# Altium schematic symbol library BMS_MasterboardUpdated_1.SCHLIB: 39 symbols
Pins are listed as number, name and electrical type; pins without a type are passive.

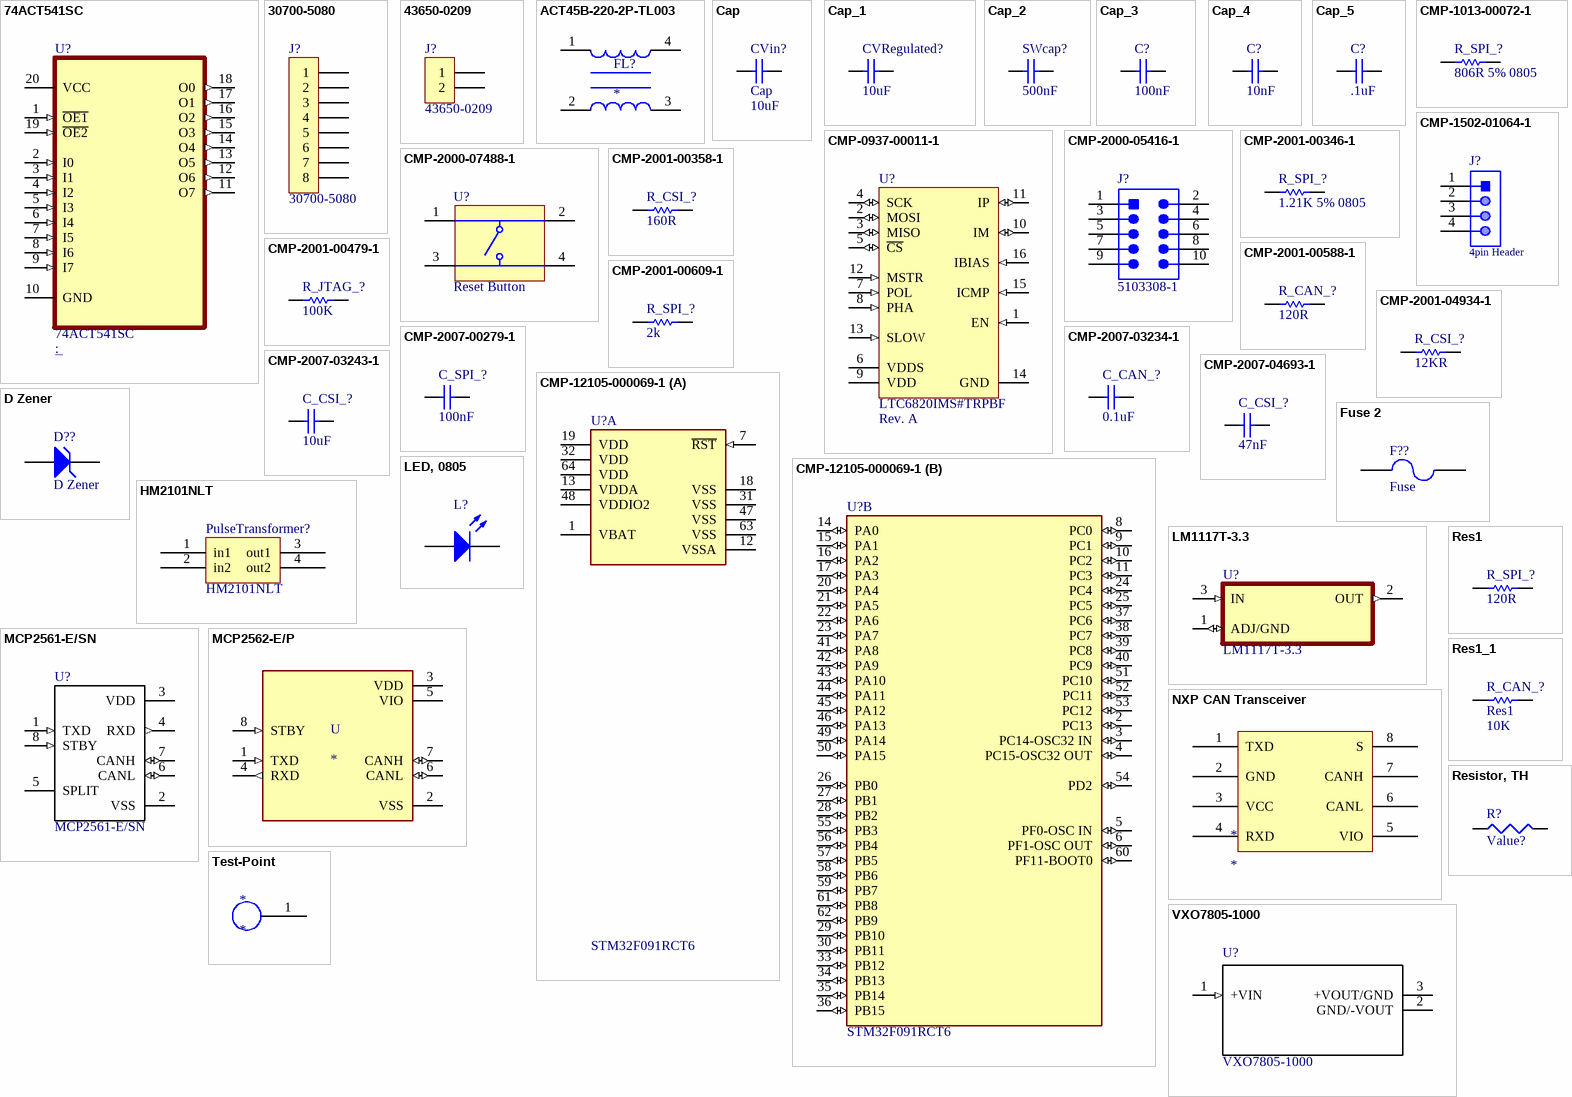
[diagram p0: symbols 74ACT541SC to VXO7805-1000]

## 74ACT541SC
designator U?
Buffer, Non-Inverting 1 Element 8 Bit per Element 3-State Output 20-SOIC; MF: ON Semiconductor; DigiKey-Purchase-URL: https://snapeda.com/shop?store=DigiKey&id=431052; Mouser-Purchase-URL: https://snapeda.com/shop?store=Mouser&id=431052; SnapEDA_Link: https://www.snapeda.com/parts/74ACT541SC/ON%20Semiconductor/view-part/431052/?ref=snap; Price: None; Arrow_Electronics-Purchase-URL: https://snapeda.com/shop?store=Arrow+Electronics&id=431052; MP: 74ACT541SC; Value: *; Availability: Warning; Package: SOIC-20 Fairchild Semiconductor
footprint SOIC127P1032X265-20N
pins: 1 ~{OE1} (in), 2 I0 (in), 3 I1 (in), 4 I2 (in), 5 I3 (in), 6 I4 (in), 7 I5 (in), 8 I6 (in), 9 I7 (in), 10 GND, 11 O7 (out), 12 O6 (out), 13 O5 (out), 14 O4 (out), 15 O3 (out), 16 O2 (out), 17 O1 (out), 18 O0 (out), 19 ~{OE2} (in), 20 VCC (power)

## 30700-5080
designator J?
Molex 8 Position High Density Board Header; TargetLibrary: RITRacing-Connectors; PartNumber: 30700-5080; Manufacturer: Molex; Publisher: T.Tallo; Published: 22Oct2016; Status: Active; ComponentLink1URL: http://www.molex.com/molex/products/datasheet.jsp?part=active/0307004081_PCB_HEADERS.xml; ComponentLink1Description: Datasheet
footprint 30700-5080 (Molex 8 Pin High Density Header)
pins: 1, 2, 3, 4, 5, 6, 7, 8

## 43650-0209
designator J?
Molex 2 Position Board Header, RIght Angle; TargetLibrary: RITRacing-Connectors; Voltage: 600V; PartNumber: 43650-0209; Manufacturer: Molex; Publisher: T.Tallo; Published: 13Aug2018; Status: Active; ComponentLink1URL: http://www.mouser.com/ds/2/418/NG_CD_1445088_A1-614413.pdf; ComponentLink1Description: Datasheet
footprint 43650-0209 (Molex 2 Position Board Header, Right Angle)
pins: 1, 2

## ACT45B-220-2P-TL003
designator FL?
100ÂµH @ 100kHz 2 Line Common Mode Choke Surface Mount 5.8 kOhms @ 10MHz 150mA DCR 2Ohm; MP: ACT45B-220-2P-TL003; Package: None; Price: None; Value: *; Availability: Unavailable
footprint FIL_ACT45B-220-2P-TL003
pins: 1, 2, 3, 4

## Cap
designator CVin?  value 10uF
Capacitor; Published: 8-Jun-2000; LatestRevisionDate: 17-Jul-2002; LatestRevisionNote: Re-released for DXP Platform.; PackageReference: RAD-0.3; Publisher: Altium Limited; PackageDescription: Radial Cap, Thru-Hole; 2 Leads; 0.3 in Pin Spacing
footprint RAD-0.3 (Radial Cap, Thru-Hole; 2 Leads; 0.3 in Pin Spacing)
simulation model CAP (Capacitor)
signal-integrity model Cap
pins: 1, 2

## Cap_1
designator CVRegulated?  value 10uF
Capacitor; Published: 8-Jun-2000; LatestRevisionDate: 17-Jul-2002; LatestRevisionNote: Re-released for DXP Platform.; PackageReference: RAD-0.3; Publisher: Altium Limited; PackageDescription: Radial Cap, Thru-Hole; 2 Leads; 0.3 in Pin Spacing
footprint RAD-0.3 (Radial Cap, Thru-Hole; 2 Leads; 0.3 in Pin Spacing)
simulation model CAP (Capacitor)
signal-integrity model Cap
pins: 1, 2

## Cap_2
designator SWcap?  SWcap1: 500nF
Capacitor; Published: 8-Jun-2000; LatestRevisionDate: 17-Jul-2002; LatestRevisionNote: Re-released for DXP Platform.; PackageReference: RAD-0.3; Publisher: Altium Limited; PackageDescription: Radial Cap, Thru-Hole; 2 Leads; 0.3 in Pin Spacing
footprint RAD-0.3 (Radial Cap, Thru-Hole; 2 Leads; 0.3 in Pin Spacing)
simulation model CAP (Capacitor)
signal-integrity model Cap
pins: 1, 2

## Cap_3
designator C?  value 100nF
Capacitor; Published: 8-Jun-2000; LatestRevisionDate: 17-Jul-2002; LatestRevisionNote: Re-released for DXP Platform.; PackageReference: RAD-0.3; Publisher: Altium Limited; PackageDescription: Radial Cap, Thru-Hole; 2 Leads; 0.3 in Pin Spacing
footprint RAD-0.3 (Radial Cap, Thru-Hole; 2 Leads; 0.3 in Pin Spacing)
simulation model CAP (Capacitor)
signal-integrity model Cap
pins: 1, 2

## Cap_4
designator C?  value 10nF
Capacitor; Published: 8-Jun-2000; LatestRevisionDate: 17-Jul-2002; LatestRevisionNote: Re-released for DXP Platform.; PackageReference: RAD-0.3; Publisher: Altium Limited; PackageDescription: Radial Cap, Thru-Hole; 2 Leads; 0.3 in Pin Spacing
footprint RAD-0.3 (Radial Cap, Thru-Hole; 2 Leads; 0.3 in Pin Spacing)
simulation model CAP (Capacitor)
signal-integrity model Cap
pins: 1, 2

## Cap_5
designator C?  value .1uF
Capacitor; Published: 8-Jun-2000; LatestRevisionDate: 17-Jul-2002; LatestRevisionNote: Re-released for DXP Platform.; PackageReference: RAD-0.3; Publisher: Altium Limited; PackageDescription: Radial Cap, Thru-Hole; 2 Leads; 0.3 in Pin Spacing
footprint RAD-0.3 (Radial Cap, Thru-Hole; 2 Leads; 0.3 in Pin Spacing)
simulation model CAP (Capacitor)
signal-integrity model Cap
pins: 1, 2

## CMP-0937-00011-1
designator U?, comment LTC6820IMS#TRPBF  DatasheetVersion: Rev. A
IsoSPI Isolated Communication Interface, 2.7 to 5.5 V, -40 to 85 degC, 16-Pin MSOP (MS), Pb-Free, Tape and Reel; Manufacturer: Linear Technology; Manufacturer: Analog Devices / Linear Technology; IO Supply Current: 1 uA Max.; Supply Current, IDLE State: 2 uA; IO Supply Voltage Range: 1.7 to 5.5 V; Receiver Input Resistance: 35 kOhm; VBIAS: 1.9 to 2.1 V; Packing: Tape and Reel; PartNumber: LTC6820IMS#TRPBF; Mounting Technology: Surface Mount; ComponentLink2Description: Datasheet; ComponentLink3Description: Package Specification; ComponentLink1Description: Manufacturer URL; PackageVersion: Rev. A; Temperature Range (degC): -40 to 85; ComponentLink2URL: http://cds.linear.com/docs/en/datasheet/6820fa.pdf; Power Supply: 2.7 to 5.5 V; ComponentLink1URL: http://www.linear.com/; PackageDescription: 16-Pin Micro Small Outline Package, Body 4.039 x 3 mm, Pitch 0.5 mm; ComponentLink3URL: http://cds.linear.com/docs/en/packaging/05081669_A_MS16.pdf; PackageReference: MS-16; Manufacturer Part Number: LTC6820IMS#TRPBF
footprint LT-MS-16_M (SOP, 16-Leads, Body 4.04x3.00mm, Pitch 0.50mm, IPC Low Density)
footprint LT-MS-16_L (SOP, 16-Leads, Body 4.04x3.00mm, Pitch 0.50mm, IPC High Density)
footprint LT-MS-16_N (SOP, 16-Leads, Body 4.04x3.00mm, Pitch 0.50mm, IPC Medium Density)
pins: 1 EN (in) "Device Enable Input. If high, this pin forces the LTC6820 to stay enabled, overriding the internal IDLE mode function. If low, the LTC6820 will go into IDLE mode after the C\S\ pin has been high for 5.7ms (when MSTR pin is high) or after no signal on the IP/IM pins for 5.7ms (when MSTR pin is low). The LTC6820 will wake-up less than 8us after C\S\ falls (MSTR high) or after a signal is detected on IP/IM (MSTR low).", 2 MOSI (io) "SPI Master Out/Slave In Data. If connected on the master side of a SPI interface (MSTR pin high), this pin receives the data signal output from the master SPI controller. If connected on the slave side of the interface (MSTR pin low), this pin drives the data signal input to the slave SPI device. The output is open drain, so an external pull-up resistor to VDDS is required.", 3 MISO (io) "SPI Master Out/Slave In Data. If connected on themaster side of a SPI interface (MSTR pin high), this pin receives the data signal output from the master SPI controller. If connected on the slave side of the interface (MSTR pin low), this pin drives the data signal input to the slave SPI device. The output is open drain, so an external pull-up resistor to VDDS is required.", 4 SCK (io) "SPI Clock Input/Output. If connected on the master side of the interface (MSTR pin high), this pin receives the clock signal from the master SPI controller. This input should not be pulled above VDDS. If connected on the slave side of the interface (MSTR pin low), this pin outputs the clock signal to the slave device. The output driver is push-pull; no external pull-up resistor is needed.", 5 ~{CS} (io) "SPI Chip Select Input/Output. If connected on the masterside ofthe interface (MSTR pin high), this pin receivesthe chip select signal from the master SPI controller. This input should not be pulled above VDDS. Ifconnected on the slave side of the interface (MSTR pin low), this pin outputs the chip select signal to the slave device. The output driver is push-pull; no external pull-up resistor is needed.", 6 VDDS (power) "SPI Input/Output Power Supply Input.The output drivers for the SCK and C\S\ pins use the VDDS input as their positive power supply. The input threshold voltages of SCK, C\S\, MOSI, MISO and EN are determined by VDDS. May be tied to VDD or to a supply above or below VDD to level shift the SPI I/O. If separate from VDD, connect a bypass capacitor of at least 0.01 pF directly between VDDS amd GND", 7 POL (in) "SPI Clock Polarity Input. Tie to VDD or GND. See Operation section for details.", 8 PHA (in) "SPI Clock Phase Input. Tie to VDD orGND. See Operation section for details.", 9 VDD (power) "Device Power Supply Input. Connect a bypass capacitor of at least 0.01uF directly between VDD and GND.", 10 IM (io) "Isolated Interface Minus Input/Output.", 11 IP (io) "Isolated Interface Plus Input/Output.", 12 MSTR (in) "Serial Interface Master/Slave Selector Input. Tie this pin to VDD if the device is on the master side of the isolated interface. Tie this pin to GND if the device is on the slave side of the isolated interface", 13 SLOW (in) "Slow Interface Selection Input. For clock frequencies at or below 200kHz, or if slave devices cannot meet timing requirements, this pin should be tied to VDD. For clock frequencies above 200kHz, this pin should be tied to GND.", 14 GND (power) "Device Ground.", 15 ICMP (in) "Isolated Interface Comparator Voltage Threshold Set. Tie this pin to the resistor divider between IBIAS and GND to set the voltage threshold of the interface receiver comparators. The comparator thresholds are set to 1/2 the voltage on the ICMP pin.", 16 IBIAS (in) "Isolated Interface Current Bias. Tie IBIAS to GND through a resistor divider to set the interface output current level.When the device is enabled, this pin is approximately 2V. When transmitting pulses, the sink current on each of the IP and IM pins is set to 20 times the current sourced from pin IBIAS to GND. Limit the capacitance on the IBIAS pin to less than 50pF to maintain the stability of the feedback circuit regulating the IBIAS voltage."

## CMP-1013-00072-1
designator R_SPI_?, comment 806R 5% 0805
820R 0.125W 5% 0805 (2012 Metric)  SMD; Manufacturer: Vishay; Manufacturer Part Number: CRCW0805820RJNEC; Manufacturer: Panasonic; Manufacturer Part Number: ERJ-6GEYJ821V; Manufacturer: Yageo; Manufacturer Part Number: RC0805JR-07820RL; Manufacturer: Vishay Dale; Manufacturer Part Number: CRCW0805820RJNTA; Manufacturer Part Number: CRCW0805820RJNEB; Manufacturer: Rohm; Manufacturer Part Number: MCR10EZPJ821; Manufacturer Part Number: CRCW0805820RJNEA; Manufacturer: Bourns; Manufacturer Part Number: CR0805-JW-821ELF; Case-EIA: 0805; Case-Metric: 2012; Value: 820.00 Ohm; Technology: SMT; Tolerance: 5 %; Power: 0.125 W
footprint RESC0805(2012)_M (Chip Resistor, Body 2.0x1.3mm, IPC Low Density)
footprint RESC0805(2012)_L (Chip Resistor, Body 2.0x1.3mm, IPC High Density)
footprint RESC0805(2012)_N (Chip Resistor, Body 2.0x1.3mm, IPC Medium Density)
pins: 1, 2
1 alternate drawing of the same symbol

## CMP-1502-01064-1
designator J?, comment 4pin Header
THT Vertical Pin Header WR-PHD, Pitch 2.54 mm, Single Row, 4 pins; Manufacturer: Wurth Elektronik; Part Number: 61300411121; Manufacturer: Wurth Electronics; Withstanding Voltage: 500VAC; Rated Current: 3A; Working Voltage: 250VAC; Pin Number: 4; Gender: Male; Contact Resistance: 20mOhm; Pitch: 2.54mm; Manufacturer URL: http://www.we-online.de; Operating Temperature: -40to105degC; Packaging: Bag; Mounting Technology: THT; Package Reference: 61300411121; Datasheet URL: https://katalog.we-online.de/em/datasheet/6130xx11121.pdf; Publisher: WurthElektronik; Row Number: Single; Orientation: Vertical; Manufacturer Part Number: 61300411121
footprint 61300411121 (Pin Header, pitch 2.54 mm, THT, Vertical, single row, 4p)
pins: 1, 2, 3, 4

## CMP-2000-05416-1
designator J?, comment 5103308-1
Male Header, Pitch 2.54 mm, 2 x 5 Position, Height 9.85 mm, Tail Length 3.05 mm, RoHS, Tube; Manufacturer: TE Connectivity; Manufacturer Part Number: 51033081; Pitch: 0.100"(2.54mm); Mating Products: 1658624-1-ND / -CONNRCPT10POSPOLARGOLD / 1658527-4-ND / -CONNRCPT10POS.100W/STRRELF / 1658527-3-ND / -CONNRCPT10POS.100622SERIES / 1658526-3-ND / -CONNRCPT10POSVERTGOLD / 1658526-5-ND / -609-1041LFFEMSOCKT,LEADFREE / 1658526-4-ND / -609-1030LFFEMSOCKT,LEADFREE / ASC10B-ND / -CONNIDCSOCKET10POSGOLD / ASC10H-ND / -CONNIDCSOCKET10POS15GOLD / AKC10B-ND / -CONNIDCSKT10POSW/POLGOLD / AKC10H-ND / -CONNIDCSKT10POSW/POL15GOLD / More...; Dynamic Catalog: AMP-LatchSeries; Number of Positions Loaded: All; Featured Product: AMP-LATCHRibbonCableConnectors; 3D Model: 5103308-1.pdf; Number of Positions: 10; Other Names: A33159; Catalog Drawings: LowProfileShroudedStraight; Connector Type: Header,Shrouded; Termination: Solder; Contact Finish Thickness: 15µin(0.38µm); Datasheet URL: http://www.onlinecomponents.com/productFiles/mf-AMP/eng_cat_889409_0699_96_.pdf; Standard Package: 125; Number of Rows: 2; Contact Type: MalePin; Mounting Type: ThroughHole; Manufacturer URL: http://www.te.com/; Contact Finish: GoldorGold-Palladium; Family: RectangularConnectors-Headers,MalePins; RoHS Information: 5103308-1StatementofCompliance; Packaging: Tube; Category: Connectors,Interconnects; Datasheet Version: Apr-12; Contact Mating Length: 0.240"(6.10mm); Series: AMP-Latch; Row Spacing: 0.100"(2.54mm); Color: Black
footprint TECO-5103308-1_V (Connector, 10-Leads, Body 20.32x9.14mm, Pitch 2.54mm)
pins: 1, 2, 3, 4, 5, 6, 7, 8, 9, 10

## CMP-2000-07488-1
designator U?, comment Reset Button
Swicth, SPST, 24 V, -35 to 85 degC, 4-Pin SMD, RoHS, Tape and Reel; Manufacturer: TE Connectivity; Manufacturer Part Number: FSM4JSMA; Switch Travel: 0.25mm; Mechanical Life: 100000Cycles; Contact Current Rating: 50mA; Operating Force: 1.57N; Actuator Material: Polyamide; Contact Resistance: 100mOhm; Voltage Rating: 24V; Illumination Type: Illuminated; Actuator Length: 0.055inch; Max Voltage Rating (DC): 12V; Case\/Package: SMD/SMT; Orientation: Straight; Datasheet URL: http://www.te.com/commerce/DocumentDelivery/DDEController?Action=showdoc&DocId=Customer+Drawing%7F2-1437565-7%7FV%7Fpdf%7FEnglish%7FENG_CD_2-1437565-7_V.pdf%7F4-1437565-2; Min Operating Temperature: -35degC; Packaging: LoosePiece; Termination: GullWing; Throw Configuration: SPST; Package Description: 4-Pin Surface Mount Device, Body 6 x 6 mm, Pitch 4.5 mm; Mounting Technology: SurfaceMount; Contact Plating: Silver; Datasheet Version: Rev. V, 02/2015; RoHSCompliant: true; Max Operating Temperature: 85degC; Length: 6mm; Voltage Rating (DC): 24V; Electrical Life: 100000Cycles; Current Rating: 50mA; Package Quantity: 750; Mount: SurfaceMount; Package Reference: FSM4JSMA; Manufacturer URL: http://www.te.com/; Width: 6mm; REACH SVHC: Unknown; Contact Material: CopperAlloy
footprint TECO-FSM4JSMA_V (SMD, 4-Leads, Body 6x6mm, Pitch 4.5mm)
pins: 1, 2, 3, 4

## CMP-2001-00346-1
designator R_SPI_?, comment 1.21K 5% 0805
Part Number: ERJ-6GEYJ122V; Manufacturer: Panasonic; Manufacturer Part Number: ERJ-6GEYJ122V
footprint RESC2013X70X40NL20T20 (Chip Resistor, 2-Leads, Body 2.00x1.25mm, IPC Medium Density)
footprint RESC2013X70X40LL20T20 (Chip Resistor, 2-Leads, Body 2.00x1.25mm, IPC High Density)
footprint RESC2013X70X40ML20T20 (Chip Resistor, 2-Leads, Body 2.00x1.25mm, IPC Low Density)
pins: 1, 2
1 alternate drawing of the same symbol

## CMP-2001-00358-1
designator R_CSI_?, comment 160R
Manufacturer: Panasonic; Part Number: ERJ-6GEYJ161V; Manufacturer Part Number: ERJ-6GEYJ161V
footprint RESC2013X70X40ML20T20 (Chip Resistor, 2-Leads, Body 2.00x1.25mm, IPC Low Density)
footprint RESC2013X70X40LL20T20 (Chip Resistor, 2-Leads, Body 2.00x1.25mm, IPC High Density)
footprint RESC2013X70X40NL20T20 (Chip Resistor, 2-Leads, Body 2.00x1.25mm, IPC Medium Density)
pins: 1, 2
1 alternate drawing of the same symbol

## CMP-2001-00479-1
designator R_JTAG_?, comment 100K
Manufacturer: Panasonic; Part Number: ERJ-P06J104V; Manufacturer Part Number: ERJ-P06J104V
footprint RESC2013X70X40NL20T20 (Chip Resistor, 2-Leads, Body 2.00x1.25mm, IPC Medium Density)
footprint RESC2013X70X40ML20T20 (Chip Resistor, 2-Leads, Body 2.00x1.25mm, IPC Low Density)
footprint RESC2013X70X40LL20T20 (Chip Resistor, 2-Leads, Body 2.00x1.25mm, IPC High Density)
pins: 1, 2
1 alternate drawing of the same symbol

## CMP-2001-00588-1
designator R_CAN_?, comment 120R
Manufacturer: Panasonic; Part Number: ERA6AEB121V; Manufacturer Part Number: ERA6AEB121V
footprint RESC2013X60X40ML20T25 (Chip Resistor, 2-Leads, Body 2.00x1.25mm, IPC Low Density)
footprint RESC2013X60X40LL20T25 (Chip Resistor, 2-Leads, Body 2.00x1.25mm, IPC High Density)
footprint RESC2013X60X40NL20T25 (Chip Resistor, 2-Leads, Body 2.00x1.25mm, IPC Medium Density)
pins: 1, 2
1 alternate drawing of the same symbol

## CMP-2001-00609-1
designator R_SPI_?, comment 2k
Part Number: ERA6AEB202V; Manufacturer: Panasonic; Manufacturer Part Number: ERA-6AEB202V
footprint RESC2013X60X40ML20T25 (Chip Resistor, 2-Leads, Body 2.00x1.25mm, IPC Low Density)
footprint RESC2013X60X40NL20T25 (Chip Resistor, 2-Leads, Body 2.00x1.25mm, IPC Medium Density)
footprint RESC2013X60X40LL20T25 (Chip Resistor, 2-Leads, Body 2.00x1.25mm, IPC High Density)
pins: 1, 2
1 alternate drawing of the same symbol

## CMP-2001-04934-1
designator R_CSI_?, comment 12KR
Manufacturer: Vishay Dale; Part Number: CRCW080512K0FKEA; Manufacturer: Vishay; Manufacturer Part Number: CRCW080512K0FKEA
footprint RESC2013X50X30ML20T20 (Chip Resistor, 2-Leads, Body 2.00x1.25mm, IPC Low Density)
footprint RESC2013X50X30LL20T20 (Chip Resistor, 2-Leads, Body 2.00x1.25mm, IPC High Density)
footprint RESC2013X50X30NL20T20 (Chip Resistor, 2-Leads, Body 2.00x1.25mm, IPC Medium Density)
pins: 1, 2
1 alternate drawing of the same symbol

## CMP-2007-00279-1
designator C_SPI_?, comment 100nF
Part Number: C0805C104K5RACTU; Manufacturer: Kemet; Manufacturer: KEMET; Manufacturer Part Number: C0805C104K5RACTU
footprint CAPC2013X88X50NL20T25 (Chip Capacitor, 2-Leads, Body 2.00x1.25mm, IPC Medium Density)
footprint CAPC2013X88X50LL20T25 (Chip Capacitor, 2-Leads, Body 2.00x1.25mm, IPC High Density)
footprint CAPC2013X88X50ML20T25 (Chip Capacitor, 2-Leads, Body 2.00x1.25mm, IPC Low Density)
pins: 1, 2
1 alternate drawing of the same symbol

## CMP-2007-03234-1
designator C_CAN_?, comment 0.1uF
Part Number: C0805C105K3RACTU; Manufacturer: Kemet; Manufacturer: KEMET; Manufacturer Part Number: C0805C105K3RACTU
footprint CAPC2013X140X50LL20T25 (Chip Capacitor, 2-Leads, Body 2.00x1.25mm, IPC High Density)
footprint CAPC2013X140X50ML20T25 (Chip Capacitor, 2-Leads, Body 2.00x1.25mm, IPC Low Density)
footprint CAPC2013X140X50NL20T25 (Chip Capacitor, 2-Leads, Body 2.00x1.25mm, IPC Medium Density)
pins: 1, 2
1 alternate drawing of the same symbol

## CMP-2007-03243-1
designator C_CSI_?, comment 10uF
Part Number: C0805C106K8PACTU; Manufacturer: Kemet; Manufacturer: KEMET; Manufacturer Part Number: C0805C106K8PACTU
footprint CAPC2013X140X50LL20T25 (Chip Capacitor, 2-Leads, Body 2.00x1.25mm, IPC High Density)
footprint CAPC2013X140X50ML20T25 (Chip Capacitor, 2-Leads, Body 2.00x1.25mm, IPC Low Density)
footprint CAPC2013X140X50NL20T25 (Chip Capacitor, 2-Leads, Body 2.00x1.25mm, IPC Medium Density)
pins: 1, 2
1 alternate drawing of the same symbol

## CMP-2007-04693-1
designator C_CSI_?, comment 47nF
Part Number: 08051C473KAT2A; Manufacturer: AVX Interconnect / Elco; Manufacturer: Kyocera AVX; Manufacturer Part Number: 08051C473KAT2A
footprint CAPC2013X140X50LL20T25 (Chip Capacitor, 2-Leads, Body 2.00x1.25mm, IPC High Density)
footprint CAPC2013X140X50ML20T25 (Chip Capacitor, 2-Leads, Body 2.00x1.25mm, IPC Low Density)
footprint CAPC2013X140X50NL20T25 (Chip Capacitor, 2-Leads, Body 2.00x1.25mm, IPC Medium Density)
pins: 1, 2
1 alternate drawing of the same symbol

## CMP-12105-000069-1
designator U?, comment STM32F091RCT6
IC MCU 32BIT 256KB FLASH 64LQFP; Manufacturer: STMicroelectronics; Ram Size: 32KBytes; Number Of A/D Converters: 1; Standoff Height: 0.05mm; Number Of I/Os: 52; Number Of Pwm Channels: 6; Max Supply Voltage: 3.6V; Data Bus Width: 32bits; Max Junction Temp: +105°C; Number Of Spi Channels: 2; Min Supply Voltage: 2V; Number Of Adc Channels: 19; Memory Size: 256KBytes; Frequency: 48MHz; Nominal Supply Current: 0.9-26.9mA; Number Of Uart Channels: 8; Core Architecture: ARM Cortex-M0; Number Of Timers/Counters: 10; Interface: I2C,SPI,USART,CAN,LIN,IrDA,I2S,SMBus; Category: IC; Digikey Description: IC MCU 32BIT 256KB FLASH 64LQFP; Temperature Range Low: -40°C; Lead Free: Yes; ComponentLink2Description: Datasheet; Octopart: https://octopart.com/stm32f091rct6-stmicroelectronics-51988683; Device Class L1: Integrated Circuits (ICs); Automotive: No; Temperature Range High: +85°C; Ambient Temperature Range Low: -40°C; Device Class L2: Embedded Processors and Controllers; Number Of I2C Channels: 2; Memory Type: FLASH; Device Class L3: Microcontrollers; Height: 1.6mm; Temperature: -40°C to +85°C; Ambient Temperature Range High: +85°C; RoHS: TRUE; Ipc Land Pattern Name: QFP50P1200X1200X160-64; ComponentLink2URL: https://www.st.com/resource/en/datasheet/stm32f091rc.pdf; Manufacturer Part Number: STM32F091RCT6; Package: LQFP64-5W; Mouser Description: ARM Microcontrollers - MCU 16/32-BITS MICROS; Number Of Cores: 1
footprint FP-LQFP64-5W-MFG
footprint FP-LQFP64-5W-IPC_C
footprint FP-LQFP64-5W-IPC_B
footprint FP-LQFP64-5W-IPC_A
part A pins: 1 VBAT (power), 7 ~{RST} (in), 12 VSSA (power), 13 VDDA (power), 18 VSS (power), 19 VDD (power), 31 VSS (power), 32 VDD (power), 47 VSS (power), 48 VDDIO2 (power), 63 VSS (power), 64 VDD (power)
part B pins: 2 PC13 (io), 3 PC14-OSC32 IN (io), 4 PC15-OSC32 OUT (io), 5 PF0-OSC IN (io), 6 PF1-OSC OUT (io), 8 PC0 (io), 9 PC1 (io), 10 PC2 (io), 11 PC3 (io), 14 PA0 (io), 15 PA1 (io), 16 PA2 (io), 17 PA3 (io), 20 PA4 (io), 21 PA5 (io), 22 PA6 (io), 23 PA7 (io), 24 PC4 (io), 25 PC5 (io), 26 PB0 (io), 27 PB1 (io), 28 PB2 (io), 29 PB10 (io), 30 PB11 (io), 33 PB12 (io), 34 PB13 (io), 35 PB14 (io), 36 PB15 (io), 37 PC6 (io), 38 PC7 (io), 39 PC8 (io), 40 PC9 (io), 41 PA8 (io), 42 PA9 (io), 43 PA10 (io), 44 PA11 (io), 45 PA12 (io), 46 PA13 (io), 49 PA14 (io), 50 PA15 (io), 51 PC10 (io), 52 PC11 (io), 53 PC12 (io), 54 PD2 (io), 55 PB3 (io), 56 PB4 (io), 57 PB5 (io), 58 PB6 (io), 59 PB7 (io), 60 PF11-BOOT0 (io), 61 PB8 (io), 62 PB9 (io)

## D Zener
designator D??
Zener Diode; Published: 8-Jun-2000; LatestRevisionDate: 17-Jul-2002; LatestRevisionNote: Re-released for DXP Platform.; PackageReference: DIODE-0.7; Publisher: Altium Limited; PackageDescription: Diode, Thru-Hole; 2 Leads; 0.7 in Pin Spacing
footprint DIODE-0.7 (Diode, Thru-Hole; 2 Leads; 0.7 in Pin Spacing)
simulation model ZENER (Diode)
signal-integrity model D Zener
pins: 1 A, 2 K

## Fuse 2
designator F??, comment Fuse
Published: 8-Jun-2000; LatestRevisionDate: 17-Jul-2002; LatestRevisionNote: Re-released for DXP Platform.; PackageReference: PIN-W2/E2.8; Publisher: Altium Limited; PackageDescription: Thru-Hole; 2 Leads
simulation model FUSE (Spice Subcircuit)
footprint FUSE 20MM
pins: 1, 2

## HM2101NLT
designator PulseTransformer?
XFMR CMC MODULE AECQ BATT MNGT; Manufacturer 1: Pulse Electronics; Supplier 1: Digi-Key; Manufacturer Part Number 1: HM2101NLT; Stock 1: 1410; Pricing 1: 1=4.47000, 10=3.61900, 25=2.92600, 50=2.74120, 100=2.61800, 250=2.54100 (USD); RoHS: No; ComponentLink1URL: https://productfinder.pulseeng.com/doc_type/WEB301/doc_num/HM2101NL/doc_part/HM2101NL.pdf?src-supplier=Digi-Key; ComponentLink1Description: https://productfinder.pulseeng.com/doc_type/WEB301/doc_num/HM2101NL/doc_part/HM2101NL.pdf?src-supplier=Digi-Key; Supplier Part Number 1: 1840-1033-1-ND
pins: 1 in1, 2 in2, 3 out1, 4 out2

## LED, 0805
designator L?
LED, 0805, SMD; TargetLibrary: RITRacing-LED's; Value: Value?; Publisher: T.Tallo; Published: 22Oct2016; Status: Active
footprint LED, 0603 (Generic 0603 SMD)
pins: 1 A, 2 K

## LM1117T-3.3
designator U?
800-mA 15-V linear voltage regulator 3-TO-220 0 to 125; MP: LM1117T-3.3/NOPB; MF: Texas Instruments; Arrow_Electronics-Purchase-URL: https://snapeda.com/shop?store=Arrow+Electronics&id=22275; Availability: https://www.mouser.com/ProductDetail/Texas-Instruments/LM1117T-33-NOPB?qs=X1J7HmVL2ZF7RIQB6O0mNg%3D%3D&gclid=Cj0KCQjwvvj5BRDkARIsAGD9vlJnD1MNOYBTPv7FHDAskkwDQ_PuLBSV-edvQAne3qvGjGEuZX3qJSwaAtIgEALw_wcB; Texas_Instruments-Purchase-URL: https://snapeda.com/shop?store=Texas+Instruments&id=22275; DigiKey-Purchase-URL: https://snapeda.com/shop?store=DigiKey&id=22275; Price: None; Value: *; SnapEDA_Link: https://www.snapeda.com/parts/LM1117T-3.3/NOPB/Texas%20Instruments/view-part/22275/?ref=snap; Package: TO-220-3 Texas Instruments; Mouser-Purchase-URL: https://snapeda.com/shop?store=Mouser&id=22275
footprint TO254P1054X470X1955-3
pins: 1 ADJ/GND (io), 2 OUT (out), 3 IN (in)

## MCP2561-E/SN
designator U?
1/1 Transceiver Half CANbus 8-SOIC; MF: Microchip; Price: None; MP: MCP2561-E/SN; SnapEDA_Link: https://www.snapeda.com/parts/MCP2561-E/SN/Microchip/view-part/46593/?ref=snap; Availability: Unavailable; Package: SOIC-8 Microchip; Value: *
footprint *SOIC127P600X175-8N
pins: 1 TXD (in), 2 VSS (power), 3 VDD (power), 4 RXD (out), 5 SPLIT, 6 CANL (io), 7 CANH (io), 8 STBY (in)

## MCP2562-E/P
designator U
1/1 Transceiver Half CANbus 8-PDIP; MP: MCP2562-E/P; MF: Microchip; SnapEDA_Link: https://www.snapeda.com/parts/MCP2562-E/P/Microchip/view-part/290285/?ref=snap; DigiKey-Purchase-URL: https://snapeda.com/shop?store=DigiKey&id=290285; Value: *; Package: DIP-8 Microchip; Digi-Key_Part_Number: MCP2562-E/P-ND
footprint DIP787W45P254L1016H533Q8
pins: 1 TXD (in), 2 VSS (power), 3 VDD (power), 4 RXD (out), 5 VIO (power), 6 CANL (io), 7 CANH (io), 8 STBY (in)

## NXP CAN Transceiver
designator *
footprint NXP CAN Tranceiver
pins: 1 TXD, 2 GND, 3 VCC, 4 RXD, 5 VIO, 6 CANL, 7 CANH, 8 S

## Res1
designator R_SPI_?  value 120R
Resistor; Published: 8-Jun-2000; LatestRevisionDate: 17-Jul-2002; LatestRevisionNote: Re-released for DXP Platform.; PackageReference: AXIAL-0.3; Publisher: Altium Limited; PackageDescription: Axial Device, Thru-Hole; 2 Leads; 0.3 in Pin Spacing
footprint AXIAL-0.3 (Axial Device, Thru-Hole; 2 Leads; 0.3 in Pin Spacing)
simulation model RESISTOR (Resistor)
signal-integrity model Res
pins: 1, 2

## Res1_1
designator R_CAN_?, comment Res1  value 10K
Resistor; Published: 8-Jun-2000; LatestRevisionDate: 17-Jul-2002; LatestRevisionNote: Re-released for DXP Platform.; PackageReference: AXIAL-0.3; Publisher: Altium Limited; PackageDescription: Axial Device, Thru-Hole; 2 Leads; 0.3 in Pin Spacing
footprint AXIAL-0.3 (Axial Device, Thru-Hole; 2 Leads; 0.3 in Pin Spacing)
simulation model RESISTOR (Resistor)
signal-integrity model Res
pins: 1, 2

## Resistor, TH
designator R?, comment Value?
Generic TH Resistor; TargetLibrary: RITRacing-Passives; Publisher: T.Tallo; Published: 22Oct2016; Status: Active; Value: Value?
footprint Resistor, TH (Axial Through Hole Resistor)
pins: 1, 2

## Test-Point
designator *
footprint Test-Point
pins: 1

## VXO7805-1000
designator U?
Value: *
footprint CONV_VXO7805-1000
pins: 1 +VIN (in), 2 GND/-VOUT, 3 +VOUT/GND (power)